# Altium footprint library TerminalBlock_Altech.PcbLib: 46 footprints (part 4 of 4)
Each footprint in its own frame and in the unit in brackets; x right, y up, seen from the top. Pads: shape width x height; smd on the part's side, far side on the other; paste and mask are expansions set on the pad; w line width, h text height; cw(c..) or ccw(c..) is an arc to the next point about the centre after c.
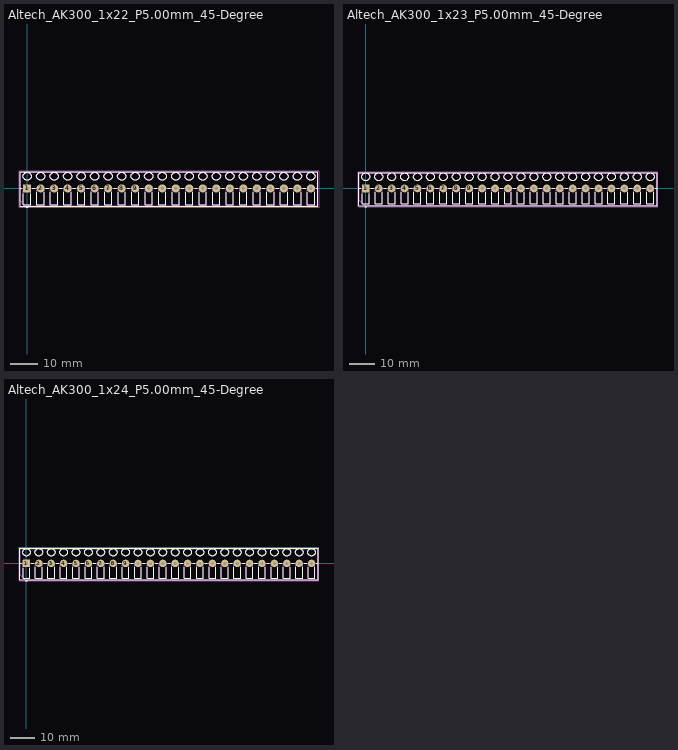
[diagram p3: the footprints below, top view; thin cyan lines are the x and y axes]

## Altech_AK300_1x22_P5.00mm_45-Degree [mm]
pads (22):
  rrect8% 3x3 hole 1.3: 1(0,0)
  round 3 hole 1.3: 2(5,0) 3(10,0) 4(15,0) 5(20,0) 6(25,0) 7(30,0) 8(35,0) 9(40,0) 10(45,0) 11(50,0) 12(55,0) 13(60,0) 14(65,0) 15(70,0) 16(75,0) 17(80,0) 18(85,0) 19(90,0) 20(95,0) 21(100,0) 22(105,0)
F.SilkS:
  region: 0.44,-7.23 -0.44,-7.23 0,-6.62
  lines w0.254: -2.62,0 -1.98,0 ; -1.35,-1.98 -1.35,-6 1.35,-6 1.35,-1.98 ; -0.3,-6.62 -2.62,-6.62 -2.62,6.12 107.62,6.12 107.62,-6.62 0.3,-6.62 ; 1.98,0 3.02,0 ; 3.65,-1.448 3.65,-6 6.35,-6 6.35,-1.448 ; 6.98,0 8.02,0 ; 8.65,-1.448 8.65,-6 11.35,-6 11.35,-1.448 ; 11.98,0 13.02,0 ; 13.65,-1.448 13.65,-6 16.35,-6 16.35,-1.448 ; 16.98,0 18.02,0 ; 18.65,-1.448 18.65,-6 21.35,-6 21.35,-1.448 ; 21.98,0 23.02,0 ; 23.65,-1.448 23.65,-6 26.35,-6 26.35,-1.448 ; 26.98,0 28.02,0 ; 28.65,-1.448 28.65,-6 31.35,-6 31.35,-1.448 ; 31.98,0 33.02,0 ; 33.65,-1.448 33.65,-6 36.35,-6 36.35,-1.448 ; 36.98,0 38.02,0 ; 38.65,-1.448 38.65,-6 41.35,-6 41.35,-1.448 ; 41.98,0 43.02,0 ; 43.65,-1.448 43.65,-6 46.35,-6 46.35,-1.448 ; 46.98,0 48.02,0 ; 48.65,-1.448 48.65,-6 51.35,-6 51.35,-1.448 ; 51.98,0 53.02,0 ; 53.65,-1.448 53.65,-6 56.35,-6 56.35,-1.448 ; 56.98,0 58.02,0 ; 58.65,-1.448 58.65,-6 61.35,-6 61.35,-1.448 ; 61.98,0 63.02,0 ; 63.65,-1.448 63.65,-6 66.35,-6 66.35,-1.448 ; 66.98,0 68.02,0 ; 68.65,-1.448 68.65,-6 71.35,-6 71.35,-1.448 ; 71.98,0 73.02,0 ; 73.65,-1.448 73.65,-6 76.35,-6 76.35,-1.448 ; 76.98,0 78.02,0 ; 78.65,-1.448 78.65,-6 81.35,-6 81.35,-1.448 ; 81.98,0 83.02,0 ; 83.65,-1.448 83.65,-6 86.35,-6 86.35,-1.448 ; 86.98,0 88.02,0 ; 88.65,-1.448 88.65,-6 91.35,-6 91.35,-1.448 ; 91.98,0 93.02,0 ; 93.65,-1.448 93.65,-6 96.35,-6 96.35,-1.448 ; 96.98,0 98.02,0 ; 98.65,-1.448 98.65,-6 101.35,-6 101.35,-1.448 ; 101.98,0 103.02,0 ; 103.65,-1.448 103.65,-6 106.35,-6 106.35,-1.448 ; 106.98,0 107.62,0 ; -1.75,4.5 cw(c0,4.041) 1.75,4.5 cw(c0,4.959) -1.75,4.5 ; 3.25,4.5 cw(c5,4.041) 6.75,4.5 cw(c5,4.959) 3.25,4.5 ; 8.25,4.5 cw(c10,4.041) 11.75,4.5 cw(c10,4.959) 8.25,4.5 ; 13.25,4.5 cw(c15,4.041) 16.75,4.5 cw(c15,4.959) 13.25,4.5 ; 18.25,4.5 cw(c20,4.041) 21.75,4.5 cw(c20,4.959) 18.25,4.5 ; 23.25,4.5 cw(c25,4.041) 26.75,4.5 cw(c25,4.959) 23.25,4.5 ; 28.25,4.5 cw(c30,4.041) 31.75,4.5 cw(c30,4.959) 28.25,4.5 ; 33.25,4.5 cw(c35,4.041) 36.75,4.5 cw(c35,4.959) 33.25,4.5 ; 38.25,4.5 cw(c40,4.041) 41.75,4.5 cw(c40,4.959) 38.25,4.5 ; 43.25,4.5 cw(c45,4.041) 46.75,4.5 cw(c45,4.959) 43.25,4.5 ; 48.25,4.5 cw(c50,4.041) 51.75,4.5 cw(c50,4.959) 48.25,4.5 ; 53.25,4.5 cw(c55,4.041) 56.75,4.5 cw(c55,4.959) 53.25,4.5 ; 58.25,4.5 cw(c60,4.041) 61.75,4.5 cw(c60,4.959) 58.25,4.5 ; 63.25,4.5 cw(c65,4.041) 66.75,4.5 cw(c65,4.959) 63.25,4.5 ; 68.25,4.5 cw(c70,4.041) 71.75,4.5 cw(c70,4.959) 68.25,4.5 ; 73.25,4.5 cw(c75,4.041) 76.75,4.5 cw(c75,4.959) 73.25,4.5 ; 78.25,4.5 cw(c80,4.041) 81.75,4.5 cw(c80,4.959) 78.25,4.5 ; 83.25,4.5 cw(c85,4.041) 86.75,4.5 cw(c85,4.959) 83.25,4.5 ; 88.25,4.5 cw(c90,4.041) 91.75,4.5 cw(c90,4.959) 88.25,4.5 ; 93.25,4.5 cw(c95,4.041) 96.75,4.5 cw(c95,4.959) 93.25,4.5 ; 98.25,4.5 cw(c100,4.041) 101.75,4.5 cw(c100,4.959) 98.25,4.5 ; 103.25,4.5 cw(c105,4.041) 106.75,4.5 cw(c105,4.959) 103.25,4.5
F.Fab:
  lines w0.254: -2.5,0 107.5,0 ; -2.5,-4.5 -2.5,6 107.5,6 107.5,-6.5 -0.5,-6.5 -2.5,-4.5 ; -1.75,4.5 cw(c0,4.041) 1.75,4.5 cw(c0,4.959) -1.75,4.5 ; -1.35,-6 -1.35,-0.5 1.35,-0.5 1.35,-6 -1.35,-6 ; 3.25,4.5 cw(c5,4.041) 6.75,4.5 cw(c5,4.959) 3.25,4.5 ; 3.65,-6 3.65,-0.5 6.35,-0.5 6.35,-6 3.65,-6 ; 8.25,4.5 cw(c10,4.041) 11.75,4.5 cw(c10,4.959) 8.25,4.5 ; 8.65,-6 8.65,-0.5 11.351,-0.5 11.351,-6 8.65,-6 ; 13.25,4.5 cw(c15,4.041) 16.75,4.5 cw(c15,4.959) 13.25,4.5 ; 13.65,-6 13.65,-0.5 16.351,-0.5 16.351,-6 13.65,-6 ; 18.25,4.5 cw(c20,4.041) 21.75,4.5 cw(c20,4.959) 18.25,4.5 ; 18.65,-6 18.65,-0.5 21.35,-0.5 21.35,-6 18.65,-6 ; 23.25,4.5 cw(c25,4.041) 26.75,4.5 cw(c25,4.959) 23.25,4.5 ; 23.65,-6 23.65,-0.5 26.35,-0.5 26.35,-6 23.65,-6 ; 28.25,4.5 cw(c30,4.041) 31.75,4.5 cw(c30,4.959) 28.25,4.5 ; 28.65,-6 28.65,-0.5 31.35,-0.5 31.35,-6 28.65,-6 ; 33.25,4.5 cw(c35,4.041) 36.75,4.5 cw(c35,4.959) 33.25,4.5 ; 33.65,-6 33.65,-0.5 36.35,-0.5 36.35,-6 33.65,-6 ; 38.25,4.5 cw(c40,4.041) 41.75,4.5 cw(c40,4.959) 38.25,4.5 ; 38.65,-6 38.65,-0.5 41.35,-0.5 41.35,-6 38.65,-6 ; 43.25,4.5 cw(c45,4.041) 46.75,4.5 cw(c45,4.959) 43.25,4.5 ; 43.65,-6 43.65,-0.5 46.35,-0.5 46.35,-6 43.65,-6 ; 48.25,4.5 cw(c50,4.041) 51.75,4.5 cw(c50,4.959) 48.25,4.5 ; 48.65,-6 48.65,-0.5 51.35,-0.5 51.35,-6 48.65,-6 ; 53.25,4.5 cw(c55,4.041) 56.75,4.5 cw(c55,4.959) 53.25,4.5 ; 53.65,-6 53.65,-0.5 56.35,-0.5 56.35,-6 53.65,-6 ; 58.25,4.5 cw(c60,4.041) 61.75,4.5 cw(c60,4.959) 58.25,4.5 ; 58.65,-6 58.65,-0.5 61.35,-0.5 61.35,-6 58.65,-6 ; 63.25,4.5 cw(c65,4.041) 66.75,4.5 cw(c65,4.959) 63.25,4.5 ; 63.65,-6 63.65,-0.5 66.35,-0.5 66.35,-6 63.65,-6 ; 68.25,4.5 cw(c70,4.041) 71.75,4.5 cw(c70,4.959) 68.25,4.5 ; 68.65,-6 68.65,-0.5 71.35,-0.5 71.35,-6 68.65,-6 ; 73.25,4.5 cw(c75,4.041) 76.75,4.5 cw(c75,4.959) 73.25,4.5 ; 73.65,-6 73.65,-0.5 76.35,-0.5 76.35,-6 73.65,-6 ; 78.25,4.5 cw(c80,4.041) 81.75,4.5 cw(c80,4.959) 78.25,4.5 ; 78.65,-6 78.65,-0.5 81.35,-0.5 81.35,-6 78.65,-6 ; 83.25,4.5 cw(c85,4.041) 86.75,4.5 cw(c85,4.959) 83.25,4.5 ; 83.65,-6 83.65,-0.5 86.35,-0.5 86.35,-6 83.65,-6 ; 88.25,4.5 cw(c90,4.041) 91.75,4.5 cw(c90,4.959) 88.25,4.5 ; 88.65,-6 88.65,-0.5 91.35,-0.5 91.35,-6 88.65,-6 ; 93.25,4.5 cw(c95,4.041) 96.75,4.5 cw(c95,4.959) 93.25,4.5 ; 93.65,-6 93.65,-0.5 96.35,-0.5 96.35,-6 93.65,-6 ; 98.25,4.5 cw(c100,4.041) 101.75,4.5 cw(c100,4.959) 98.25,4.5 ; 98.65,-6 98.65,-0.5 101.35,-0.5 101.35,-6 98.65,-6 ; 103.25,4.5 cw(c105,4.041) 106.75,4.5 cw(c105,4.959) 103.25,4.5 ; 103.65,-6 103.65,-0.5 106.35,-0.5 106.35,-6 103.65,-6
  text "'.Designator'" at 48.453,0.11 h1
F.CrtYd:
  lines w0.254: -3,-7 -3,6.5 108,6.5 108,-7 -3,-7
3D body "Altech_AK300_1x22_P5.00mm_45-Degree.step": height 12.6, standoff -4.5, extent -2.5,-6.5 107.5,6

## Altech_AK300_1x23_P5.00mm_45-Degree [mm]
pads (23):
  rrect8% 3x3 hole 1.3: 1(0,0)
  round 3 hole 1.3: 2(5,0) 3(10,0) 4(15,0) 5(20,0) 6(25,0) 7(30,0) 8(35,0) 9(40,0) 10(45,0) 11(50,0) 12(55,0) 13(60,0) 14(65,0) 15(70,0) 16(75,0) 17(80,0) 18(85,0) 19(90,0) 20(95,0) 21(100,0) 22(105,0) 23(110,0)
F.SilkS:
  region: 0.44,-7.23 -0.44,-7.23 0,-6.62
  lines w0.254: -2.62,0 -1.98,0 ; -1.35,-1.98 -1.35,-6 1.35,-6 1.35,-1.98 ; -0.3,-6.62 -2.62,-6.62 -2.62,6.12 112.62,6.12 112.62,-6.62 0.3,-6.62 ; 1.98,0 3.02,0 ; 3.65,-1.448 3.65,-6 6.35,-6 6.35,-1.448 ; 6.98,0 8.02,0 ; 8.65,-1.448 8.65,-6 11.35,-6 11.35,-1.448 ; 11.98,0 13.02,0 ; 13.65,-1.448 13.65,-6 16.35,-6 16.35,-1.448 ; 16.98,0 18.02,0 ; 18.65,-1.448 18.65,-6 21.35,-6 21.35,-1.448 ; 21.98,0 23.02,0 ; 23.65,-1.448 23.65,-6 26.35,-6 26.35,-1.448 ; 26.98,0 28.02,0 ; 28.65,-1.448 28.65,-6 31.35,-6 31.35,-1.448 ; 31.98,0 33.02,0 ; 33.65,-1.448 33.65,-6 36.35,-6 36.35,-1.448 ; 36.98,0 38.02,0 ; 38.65,-1.448 38.65,-6 41.35,-6 41.35,-1.448 ; 41.98,0 43.02,0 ; 43.65,-1.448 43.65,-6 46.35,-6 46.35,-1.448 ; 46.98,0 48.02,0 ; 48.65,-1.448 48.65,-6 51.35,-6 51.35,-1.448 ; 51.98,0 53.02,0 ; 53.65,-1.448 53.65,-6 56.35,-6 56.35,-1.448 ; 56.98,0 58.02,0 ; 58.65,-1.448 58.65,-6 61.35,-6 61.35,-1.448 ; 61.98,0 63.02,0 ; 63.65,-1.448 63.65,-6 66.35,-6 66.35,-1.448 ; 66.98,0 68.02,0 ; 68.65,-1.448 68.65,-6 71.35,-6 71.35,-1.448 ; 71.98,0 73.02,0 ; 73.65,-1.448 73.65,-6 76.35,-6 76.35,-1.448 ; 76.98,0 78.02,0 ; 78.65,-1.448 78.65,-6 81.35,-6 81.35,-1.448 ; 81.98,0 83.02,0 ; 83.65,-1.448 83.65,-6 86.35,-6 86.35,-1.448 ; 86.98,0 88.02,0 ; 88.65,-1.448 88.65,-6 91.35,-6 91.35,-1.448 ; 91.98,0 93.02,0 ; 93.65,-1.448 93.65,-6 96.35,-6 96.35,-1.448 ; 96.98,0 98.02,0 ; 98.65,-1.448 98.65,-6 101.35,-6 101.35,-1.448 ; 101.98,0 103.02,0 ; 103.65,-1.448 103.65,-6 106.35,-6 106.35,-1.448 ; 106.98,0 108.02,0 ; 108.65,-1.448 108.65,-6 111.35,-6 111.35,-1.448 ; 111.98,0 112.62,0 ; -1.75,4.5 cw(c0,4.041) 1.75,4.5 cw(c0,4.959) -1.75,4.5 ; 3.25,4.5 cw(c5,4.041) 6.75,4.5 cw(c5,4.959) 3.25,4.5 ; 8.25,4.5 cw(c10,4.041) 11.75,4.5 cw(c10,4.959) 8.25,4.5 ; 13.25,4.5 cw(c15,4.041) 16.75,4.5 cw(c15,4.959) 13.25,4.5 ; 18.25,4.5 cw(c20,4.041) 21.75,4.5 cw(c20,4.959) 18.25,4.5 ; 23.25,4.5 cw(c25,4.041) 26.75,4.5 cw(c25,4.959) 23.25,4.5 ; 28.25,4.5 cw(c30,4.041) 31.75,4.5 cw(c30,4.959) 28.25,4.5 ; 33.25,4.5 cw(c35,4.041) 36.75,4.5 cw(c35,4.959) 33.25,4.5 ; 38.25,4.5 cw(c40,4.041) 41.75,4.5 cw(c40,4.959) 38.25,4.5 ; 43.25,4.5 cw(c45,4.041) 46.75,4.5 cw(c45,4.959) 43.25,4.5 ; 48.25,4.5 cw(c50,4.041) 51.75,4.5 cw(c50,4.959) 48.25,4.5 ; 53.25,4.5 cw(c55,4.041) 56.75,4.5 cw(c55,4.959) 53.25,4.5 ; 58.25,4.5 cw(c60,4.041) 61.75,4.5 cw(c60,4.959) 58.25,4.5 ; 63.25,4.5 cw(c65,4.041) 66.75,4.5 cw(c65,4.959) 63.25,4.5 ; 68.25,4.5 cw(c70,4.041) 71.75,4.5 cw(c70,4.959) 68.25,4.5 ; 73.25,4.5 cw(c75,4.041) 76.75,4.5 cw(c75,4.959) 73.25,4.5 ; 78.25,4.5 cw(c80,4.041) 81.75,4.5 cw(c80,4.959) 78.25,4.5 ; 83.25,4.5 cw(c85,4.041) 86.75,4.5 cw(c85,4.959) 83.25,4.5 ; 88.25,4.5 cw(c90,4.041) 91.75,4.5 cw(c90,4.959) 88.25,4.5 ; 93.25,4.5 cw(c95,4.041) 96.75,4.5 cw(c95,4.959) 93.25,4.5 ; 98.25,4.5 cw(c100,4.041) 101.75,4.5 cw(c100,4.959) 98.25,4.5 ; 103.25,4.5 cw(c105,4.041) 106.75,4.5 cw(c105,4.959) 103.25,4.5 ; 108.25,4.5 cw(c110,4.041) 111.75,4.5 cw(c110,4.959) 108.25,4.5
F.Fab:
  lines w0.254: -2.5,0 112.5,0 ; -2.5,-4.5 -2.5,6 112.5,6 112.5,-6.5 -0.5,-6.5 -2.5,-4.5 ; -1.75,4.5 cw(c0,4.041) 1.75,4.5 cw(c0,4.959) -1.75,4.5 ; -1.35,-6 -1.35,-0.5 1.35,-0.5 1.35,-6 -1.35,-6 ; 3.25,4.5 cw(c5,4.041) 6.75,4.5 cw(c5,4.959) 3.25,4.5 ; 3.65,-6 3.65,-0.5 6.35,-0.5 6.35,-6 3.65,-6 ; 8.25,4.5 cw(c10,4.041) 11.75,4.5 cw(c10,4.959) 8.25,4.5 ; 8.65,-6 8.65,-0.5 11.351,-0.5 11.351,-6 8.65,-6 ; 13.25,4.5 cw(c15,4.041) 16.75,4.5 cw(c15,4.959) 13.25,4.5 ; 13.65,-6 13.65,-0.5 16.351,-0.5 16.351,-6 13.65,-6 ; 18.25,4.5 cw(c20,4.041) 21.75,4.5 cw(c20,4.959) 18.25,4.5 ; 18.65,-6 18.65,-0.5 21.35,-0.5 21.35,-6 18.65,-6 ; 23.25,4.5 cw(c25,4.041) 26.75,4.5 cw(c25,4.959) 23.25,4.5 ; 23.65,-6 23.65,-0.5 26.35,-0.5 26.35,-6 23.65,-6 ; 28.25,4.5 cw(c30,4.041) 31.75,4.5 cw(c30,4.959) 28.25,4.5 ; 28.65,-6 28.65,-0.5 31.35,-0.5 31.35,-6 28.65,-6 ; 33.25,4.5 cw(c35,4.041) 36.75,4.5 cw(c35,4.959) 33.25,4.5 ; 33.65,-6 33.65,-0.5 36.35,-0.5 36.35,-6 33.65,-6 ; 38.25,4.5 cw(c40,4.041) 41.75,4.5 cw(c40,4.959) 38.25,4.5 ; 38.65,-6 38.65,-0.5 41.35,-0.5 41.35,-6 38.65,-6 ; 43.25,4.5 cw(c45,4.041) 46.75,4.5 cw(c45,4.959) 43.25,4.5 ; 43.65,-6 43.65,-0.5 46.35,-0.5 46.35,-6 43.65,-6 ; 48.25,4.5 cw(c50,4.041) 51.75,4.5 cw(c50,4.959) 48.25,4.5 ; 48.65,-6 48.65,-0.5 51.35,-0.5 51.35,-6 48.65,-6 ; 53.25,4.5 cw(c55,4.041) 56.75,4.5 cw(c55,4.959) 53.25,4.5 ; 53.65,-6 53.65,-0.5 56.35,-0.5 56.35,-6 53.65,-6 ; 58.25,4.5 cw(c60,4.041) 61.75,4.5 cw(c60,4.959) 58.25,4.5 ; 58.65,-6 58.65,-0.5 61.35,-0.5 61.35,-6 58.65,-6 ; 63.25,4.5 cw(c65,4.041) 66.75,4.5 cw(c65,4.959) 63.25,4.5 ; 63.65,-6 63.65,-0.5 66.35,-0.5 66.35,-6 63.65,-6 ; 68.25,4.5 cw(c70,4.041) 71.75,4.5 cw(c70,4.959) 68.25,4.5 ; 68.65,-6 68.65,-0.5 71.35,-0.5 71.35,-6 68.65,-6 ; 73.25,4.5 cw(c75,4.041) 76.75,4.5 cw(c75,4.959) 73.25,4.5 ; 73.65,-6 73.65,-0.5 76.35,-0.5 76.35,-6 73.65,-6 ; 78.25,4.5 cw(c80,4.041) 81.75,4.5 cw(c80,4.959) 78.25,4.5 ; 78.65,-6 78.65,-0.5 81.35,-0.5 81.35,-6 78.65,-6 ; 83.25,4.5 cw(c85,4.041) 86.75,4.5 cw(c85,4.959) 83.25,4.5 ; 83.65,-6 83.65,-0.5 86.35,-0.5 86.35,-6 83.65,-6 ; 88.25,4.5 cw(c90,4.041) 91.75,4.5 cw(c90,4.959) 88.25,4.5 ; 88.65,-6 88.65,-0.5 91.35,-0.5 91.35,-6 88.65,-6 ; 93.25,4.5 cw(c95,4.041) 96.75,4.5 cw(c95,4.959) 93.25,4.5 ; 93.65,-6 93.65,-0.5 96.35,-0.5 96.35,-6 93.65,-6 ; 98.25,4.5 cw(c100,4.041) 101.75,4.5 cw(c100,4.959) 98.25,4.5 ; 98.65,-6 98.65,-0.5 101.35,-0.5 101.35,-6 98.65,-6 ; 103.25,4.5 cw(c105,4.041) 106.75,4.5 cw(c105,4.959) 103.25,4.5 ; 103.65,-6 103.65,-0.5 106.35,-0.5 106.35,-6 103.65,-6 ; 108.25,4.5 cw(c110,4.041) 111.75,4.5 cw(c110,4.959) 108.25,4.5 ; 108.65,-6 108.65,-0.5 111.35,-0.5 111.35,-6 108.65,-6
  text "'.Designator'" at 50.953,0.11 h1
F.CrtYd:
  lines w0.254: -3,-7 -3,6.5 113,6.5 113,-7 -3,-7
3D body "Altech_AK300_1x23_P5.00mm_45-Degree.step": height 12.6, standoff -4.5, extent -2.5,-6.5 112.5,6

## Altech_AK300_1x24_P5.00mm_45-Degree [mm]
pads (24):
  rrect8% 3x3 hole 1.3: 1(0,0)
  round 3 hole 1.3: 2(5,0) 3(10,0) 4(15,0) 5(20,0) 6(25,0) 7(30,0) 8(35,0) 9(40,0) 10(45,0) 11(50,0) 12(55,0) 13(60,0) 14(65,0) 15(70,0) 16(75,0) 17(80,0) 18(85,0) 19(90,0) 20(95,0) 21(100,0) 22(105,0) 23(110,0) 24(115,0)
F.SilkS:
  drawing of 151 lines, arcs and shapes, not listed
F.Fab:
  lines w0.254: -2.5,0 117.5,0 ; -2.5,-4.5 -0.5,-6.5 117.5,-6.5 117.5,6 -2.5,6 -2.5,-4.5 ; -1.75,4.5 ccw(c0,4.959) 1.75,4.5 ccw(c0,4.041) -1.75,4.5 ; -1.35,-6 1.35,-6 1.35,-0.5 -1.35,-0.5 -1.35,-6 ; 3.25,4.5 ccw(c5,4.959) 6.75,4.5 ccw(c5,4.041) 3.25,4.5 ; 3.65,-6 6.35,-6 6.35,-0.5 3.65,-0.5 3.65,-6 ; 8.25,4.5 ccw(c10,4.959) 11.75,4.5 ccw(c10,4.041) 8.25,4.5 ; 8.65,-6 11.351,-6 11.351,-0.5 8.65,-0.5 8.65,-6 ; 13.25,4.5 ccw(c15,4.959) 16.75,4.5 ccw(c15,4.041) 13.25,4.5 ; 13.65,-6 16.351,-6 16.351,-0.5 13.65,-0.5 13.65,-6 ; 18.25,4.5 ccw(c20,4.959) 21.75,4.5 ccw(c20,4.041) 18.25,4.5 ; 18.65,-6 21.35,-6 21.35,-0.5 18.65,-0.5 18.65,-6 ; 23.25,4.5 ccw(c25,4.959) 26.75,4.5 ccw(c25,4.041) 23.25,4.5 ; 23.65,-6 26.35,-6 26.35,-0.5 23.65,-0.5 23.65,-6 ; 28.25,4.5 ccw(c30,4.959) 31.75,4.5 ccw(c30,4.041) 28.25,4.5 ; 28.65,-6 31.35,-6 31.35,-0.5 28.65,-0.5 28.65,-6 ; 33.25,4.5 ccw(c35,4.959) 36.75,4.5 ccw(c35,4.041) 33.25,4.5 ; 33.65,-6 36.35,-6 36.35,-0.5 33.65,-0.5 33.65,-6 ; 38.25,4.5 ccw(c40,4.959) 41.75,4.5 ccw(c40,4.041) 38.25,4.5 ; 38.65,-6 41.35,-6 41.35,-0.5 38.65,-0.5 38.65,-6 ; 43.25,4.5 ccw(c45,4.959) 46.75,4.5 ccw(c45,4.041) 43.25,4.5 ; 43.65,-6 46.35,-6 46.35,-0.5 43.65,-0.5 43.65,-6 ; 48.25,4.5 ccw(c50,4.959) 51.75,4.5 ccw(c50,4.041) 48.25,4.5 ; 48.65,-6 51.35,-6 51.35,-0.5 48.65,-0.5 48.65,-6 ; 53.25,4.5 ccw(c55,4.959) 56.75,4.5 ccw(c55,4.041) 53.25,4.5 ; 53.65,-6 56.35,-6 56.35,-0.5 53.65,-0.5 53.65,-6 ; 58.25,4.5 ccw(c60,4.959) 61.75,4.5 ccw(c60,4.041) 58.25,4.5 ; 58.65,-6 61.35,-6 61.35,-0.5 58.65,-0.5 58.65,-6 ; 63.25,4.5 ccw(c65,4.959) 66.75,4.5 ccw(c65,4.041) 63.25,4.5 ; 63.65,-6 66.35,-6 66.35,-0.5 63.65,-0.5 63.65,-6 ; 68.25,4.5 ccw(c70,4.959) 71.75,4.5 ccw(c70,4.041) 68.25,4.5 ; 68.65,-6 71.35,-6 71.35,-0.5 68.65,-0.5 68.65,-6 ; 73.25,4.5 ccw(c75,4.959) 76.75,4.5 ccw(c75,4.041) 73.25,4.5 ; 73.65,-6 76.35,-6 76.35,-0.5 73.65,-0.5 73.65,-6 ; 78.25,4.5 ccw(c80,4.959) 81.75,4.5 ccw(c80,4.041) 78.25,4.5 ; 78.65,-6 81.35,-6 81.35,-0.5 78.65,-0.5 78.65,-6 ; 83.25,4.5 ccw(c85,4.959) 86.75,4.5 ccw(c85,4.041) 83.25,4.5 ; 83.65,-6 86.35,-6 86.35,-0.5 83.65,-0.5 83.65,-6 ; 88.25,4.5 ccw(c90,4.959) 91.75,4.5 ccw(c90,4.041) 88.25,4.5 ; 88.65,-6 91.35,-6 91.35,-0.5 88.65,-0.5 88.65,-6 ; 93.25,4.5 ccw(c95,4.959) 96.75,4.5 ccw(c95,4.041) 93.25,4.5 ; 93.65,-6 96.35,-6 96.35,-0.5 93.65,-0.5 93.65,-6 ; 98.25,4.5 ccw(c100,4.959) 101.75,4.5 ccw(c100,4.041) 98.25,4.5 ; 98.65,-6 101.35,-6 101.35,-0.5 98.65,-0.5 98.65,-6 ; 103.25,4.5 ccw(c105,4.959) 106.75,4.5 ccw(c105,4.041) 103.25,4.5 ; 103.65,-6 106.35,-6 106.35,-0.5 103.65,-0.5 103.65,-6 ; 108.25,4.5 ccw(c110,4.959) 111.75,4.5 ccw(c110,4.041) 108.25,4.5 ; 108.65,-6 111.35,-6 111.35,-0.5 108.65,-0.5 108.65,-6 ; 113.25,4.5 ccw(c115,4.959) 116.75,4.5 ccw(c115,4.041) 113.25,4.5 ; 113.65,-6 116.35,-6 116.35,-0.5 113.65,-0.5 113.65,-6
  text "'.Designator'" at 53.453,0.11 h1
F.CrtYd:
  lines w0.254: -3,-7 118,-7 118,6.5 -3,6.5 -3,-7
3D body "Altech_AK300_1x24_P5.00mm_45-Degree.step": height 12.6, standoff -4.5, extent -2.5,-6.5 117.5,6